# Altium footprint library adafruit.PCBLIB: 643 footprints (part 39 of 41)
Each footprint in its own frame and in the unit in brackets; x right, y up, seen from the top. Pads: shape width x height; smd on the part's side, far side on the other; paste and mask are expansions set on the pad; w line width, h text height; cw(c..) or ccw(c..) is an arc to the next point about the centre after c.
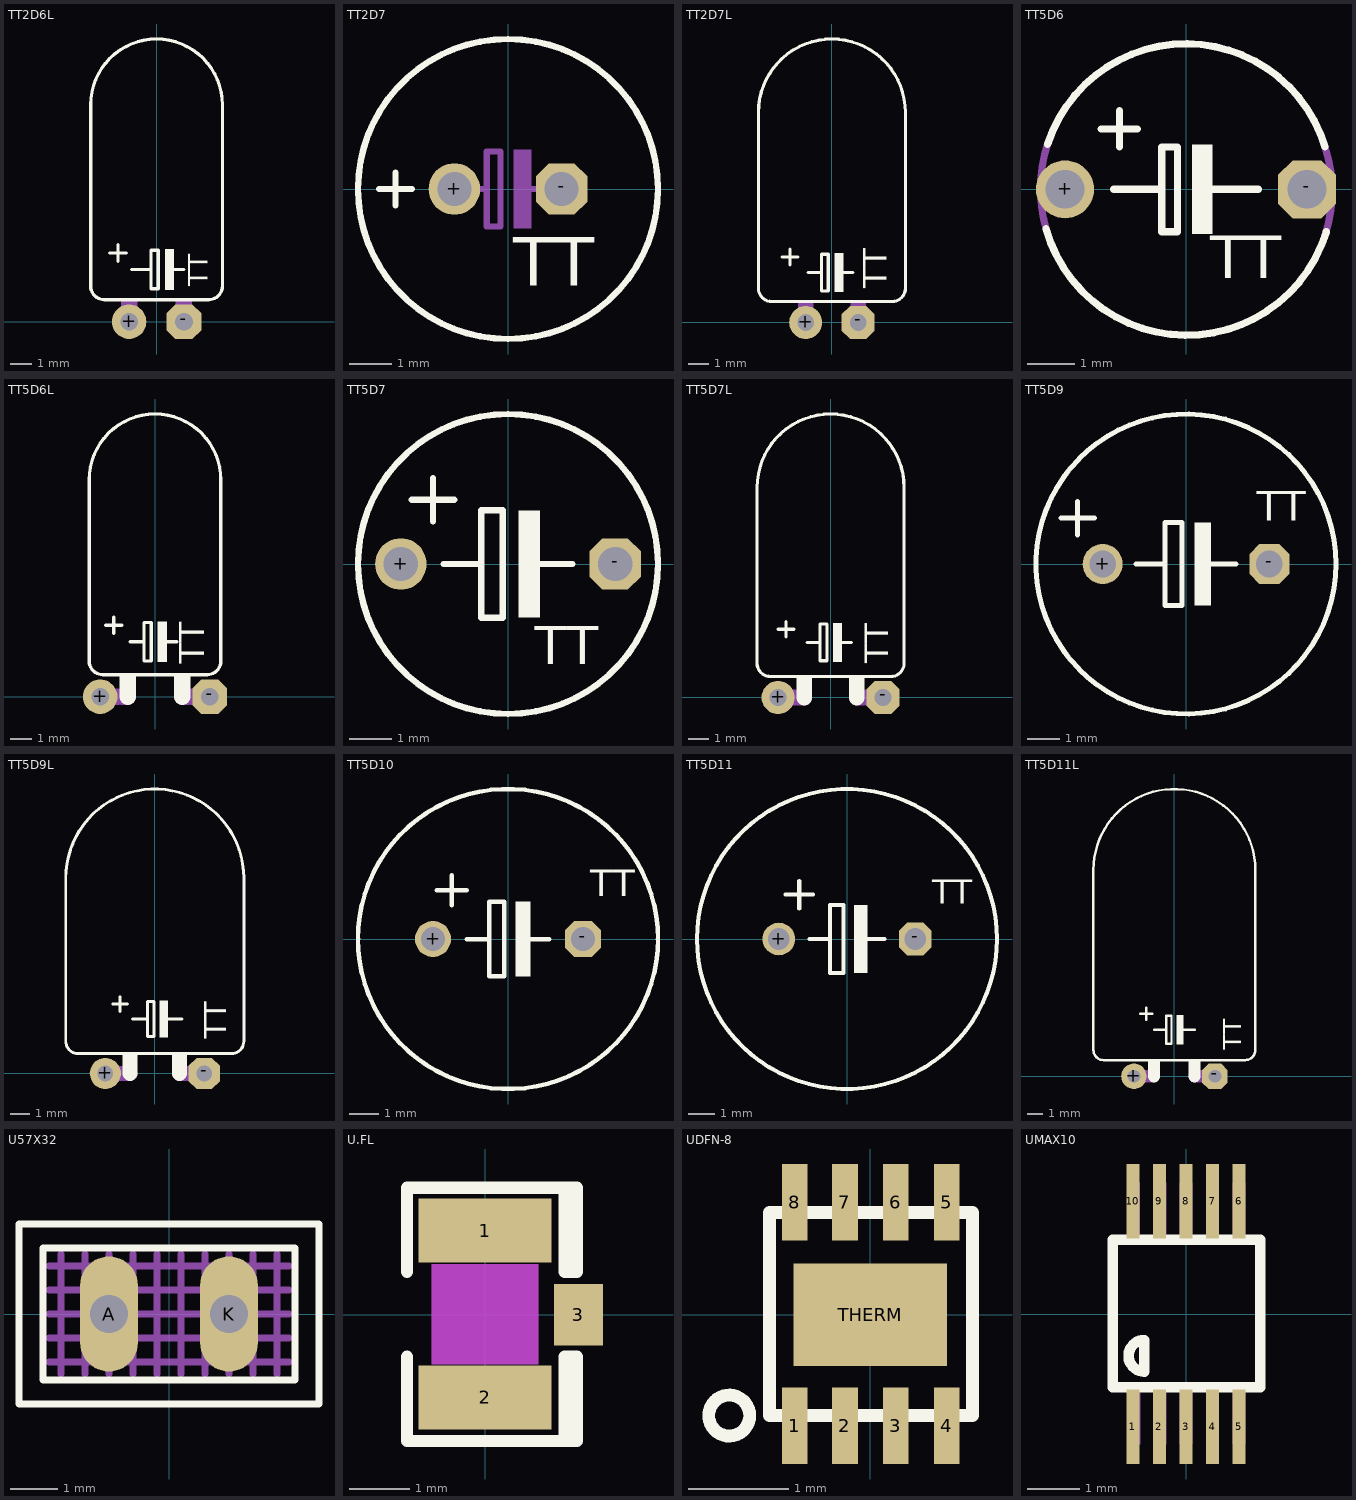
[diagram p38: the footprints below, top view; thin cyan lines are the x and y axes]

## TT2D6L [mil]
pads (2):
  round 63 hole 32: +(-50,0)
  oct 63x63 hole 32: -(50,0)
Top Overlay:
  rectangle: 15,58 32,132
  lines w6: -85,125 -55,125 ; -70,110 -70,140 ; -45,95 -10,95 ; 30,95 50,95 ; -10,95 -10,60 3,60 3,130 -10,130 -10,95 ; -120,65 -120,395 cw(c0,395) 120,395 120,65 cw(c95,65) 95,40 -95,40 cw(c-95,65) -120,65
  text "TT" at 105,65 h60.45
Courtyard Bottom:
  rectangle: -65,25 -35,40
  rectangle: 35,25 65,40
  rectangle: 35,-5 65,25
  rectangle: -65,-5 -35,25

## TT2D7 [mil]
pads (2):
  round 48 hole 32: +(-50,0)
  oct 48x48 hole 32: -(50,0)
Top Overlay:
  circle w6: c0,0 r140
  lines w6: -120,0 -90,0 ; -105,-15 -105,15
  text "TT" at 5,-105 h77.5
Courtyard Bottom:
  rectangle: 5,-37 22,37
  lines w6: -40,0 -20,0 ; 20,0 40,0 ; -20,0 -20,-35 -7,-35 -7,35 -20,35 -20,0

## TT2D7L [mil]
pads (2):
  round 63 hole 32: +(-50,0)
  oct 63x63 hole 32: -(50,0)
Top Overlay:
  rectangle: 5,58 22,132
  lines w6: -95,125 -65,125 ; -80,110 -80,140 ; -45,95 -20,95 ; 20,95 40,95 ; -20,95 -20,60 -7,60 -7,130 -20,130 -20,95 ; -140,65 ccw(c-115,65) -115,40 115,40 ccw(c115,65) 140,65 140,400 ccw(c0,400) -140,400 -140,65
  text "TT" at 120,65 h77.5
Courtyard Bottom:
  rectangle: -65,25 -35,40
  rectangle: 35,25 65,40
  rectangle: 35,-5 65,25
  rectangle: -65,-5 -35,25

## TT5D6 [mil]
pads (2):
  round 48 hole 32: +(-100,0)
  oct 48x48 hole 32: -(100,0)
Top Overlay:
  rectangle: 5,-37 22,37
  lines w6: -115.76,-32.41 ccw(c0.5,0.15) 116,-35 ; -114.49,37 cw(c-0.06,0.18) 115,35 ; -70,50 -40,50 ; -60,0 -20,0 ; -55,35 -55,65 ; 20,0 60,0 ; -20,0 -20,-35 -7,-35 -7,35 -20,35 -20,0
  text "TT" at 20,-85 h60.45
Courtyard Bottom:
  lines w6: -115,-35 cw(c1.55,0.49) -114.04,39 ; 115,-38.01 ccw(c0.48,-1.51) 115,35

## TT5D6L [mil]
pads (2):
  round 63 hole 32: +(-100,0)
  oct 63x63 hole 32: -(100,0)
Top Overlay:
  rectangle: -65,25 -35,40
  rectangle: 35,25 65,40
  rectangle: 5,63 22,137
  lines w6: -90,130 -60,130 ; -75,115 -75,145 ; -45,100 -20,100 ; 20,100 40,100 ; -20,100 -20,65 -7,65 -7,135 -20,135 -20,100 ; -120,65 -120,395 cw(c0,395) 120,395 120,65 cw(c95,65) 95,40 -95,40 cw(c-95,65) -120,65
  lines w30: -50,0 -50,25 ; 50,0 50,25
  text "TT" at 105,60 h77.5
Courtyard Bottom:
  rectangle: 65,-15 100,15
  rectangle: -100,-15 -65,15
  lines w30: -60,0 -50,0 ; 50,0 60,0

## TT5D7 [mil]
pads (2):
  round 48 hole 32: +(-100,0)
  oct 48x48 hole 32: -(100,0)
Top Overlay:
  circle w6: c0,0 r140
  rectangle: 10,-50 30,50
  lines w6: -90,60 -50,60 ; -70,40 -70,80 ; -60,0 -25,0 ; 25,0 60,0 ; -25,0 -25,-50 -5,-50 -5,50 -25,50 -25,0
  text "TT" at 25,-105 h60.45

## TT5D7L [mil]
pads (2):
  round 63 hole 32: +(-100,0)
  oct 63x63 hole 32: -(100,0)
Top Overlay:
  rectangle: -65,25 -35,40
  rectangle: 35,25 65,40
  rectangle: 5,68 22,142
  lines w6: -100,130 -70,130 ; -85,115 -85,145 ; -45,105 -20,105 ; 20,105 40,105 ; -20,105 -20,70 -7,70 -7,140 -20,140 -20,105 ; -140,65 -140,400 cw(c0,400) 140,400 140,65 cw(c115,65) 115,40 -115,40 cw(c-115,65) -140,65
  lines w30: -50,0 -50,25 ; 50,0 50,25
  text "TT" at 125,65 h77.5
Courtyard Bottom:
  rectangle: 65,-15 100,15
  rectangle: -100,-15 -65,15
  lines w30: -60,0 -50,0 ; 50,0 60,0

## TT5D9 [mil]
pads (2):
  round 48 hole 32: +(-100,0)
  oct 48x48 hole 32: -(100,0)
Top Overlay:
  circle w6: c0,0 r180
  rectangle: 10,-50 30,50
  lines w6: -150,55 -110,55 ; -130,35 -130,75 ; -60,0 -25,0 ; 25,0 60,0 ; -25,0 -25,-50 -5,-50 -5,50 -25,50 -25,0
  text "TT" at 85,40 h60.45

## TT5D9L [mil]
pads (2):
  round 63 hole 32: +(-100,0)
  oct 63x63 hole 32: -(100,0)
Top Overlay:
  rectangle: -65,25 -35,40
  rectangle: 35,25 65,40
  rectangle: 10,73 27,147
  lines w6: -85,140 -55,140 ; -70,125 -70,155 ; -45,110 -15,110 ; 25,110 55,110 ; -15,110 -15,75 -2,75 -2,145 -15,145 -15,110 ; -180,65 -180,395 cw(c0,395) 180,395 180,65 cw(c155,65) 155,40 -155,40 cw(c-155,65) -180,65
  lines w30: -50,0 -50,25 ; 50,0 50,25
  text "TT" at 160,70 h77.5
Courtyard Bottom:
  rectangle: 65,-15 100,15
  rectangle: -100,-15 -65,15
  lines w30: -60,0 -50,0 ; 50,0 60,0

## TT5D10 [mil]
pads (2):
  round 48 hole 32: +(-100,0)
  oct 48x48 hole 32: -(100,0)
Top Overlay:
  circle w6: c0,0 r200
  rectangle: 10,-50 30,50
  lines w6: -95,65 -55,65 ; -75,45 -75,85 ; -55,0 -25,0 ; 25,0 55,0 ; -25,0 -25,-50 -5,-50 -5,50 -25,50 -25,0
  text "TT" at 110,45 h60.45

## TT5D11 [mil]
pads (2):
  round 48 hole 32: +(-100,0)
  oct 48x48 hole 32: -(100,0)
Top Overlay:
  circle w6: c0,0 r220
  rectangle: 10,-50 30,50
  lines w6: -90,65 -50,65 ; -70,45 -70,85 ; -55,0 -25,0 ; 25,0 55,0 ; -25,0 -25,-50 -5,-50 -5,50 -25,50 -25,0
  text "TT" at 125,40 h60.45

## TT5D11L [mil]
pads (2):
  round 63 hole 32: +(-100,0)
  oct 63x63 hole 32: -(100,0)
Top Overlay:
  rectangle: -65,25 -35,40
  rectangle: 35,25 65,40
  rectangle: 5,78 22,152
  lines w6: -85,155 -55,155 ; -70,140 -70,170 ; -50,115 -20,115 ; 20,115 50,115 ; -20,115 -20,80 -7,80 -7,150 -20,150 -20,115 ; -200,65 -200,510 cw(c0,510) 200,510 200,65 cw(c175,65) 175,40 -175,40 cw(c-175,65) -200,65
  lines w30: -50,0 -50,25 ; 50,0 50,25
  text "TT" at 180,65 h77.5
Courtyard Bottom:
  rectangle: 65,-15 100,15
  rectangle: -100,-15 -65,15
  lines w30: -60,0 -50,0 ; 50,0 60,0

## U57X32 [mil]
pads (2):
  oval 48x96 hole 32: A(-50,0) K(50,0)
Top Overlay:
  lines w6: -125,-75 125,-75 125,75 -125,75 -125,-75 ; -105,-55 105,-55 105,55 -105,55 -105,-55
Courtyard Bottom:
  lines w6: -100,-40 100,-40 ; -100,-20 100,-20 ; -100,0 100,0 ; -100,20 100,20 ; -100,40 100,40 ; -90,-50 -90,50 ; -70,-50 -70,50 ; -50,-50 -50,50 ; -30,-50 -30,50 ; -10,-50 -10,50 ; 10,-50 10,50 ; 30,-50 30,50 ; 50,-50 50,50 ; 70,-50 70,50 ; 90,-50 90,50

## U.FL [mil]
pads (3):
  rect 87x42 smd: 1(0,55) 2(0,-54.13)
  rect 32x40 smd: 3(61,0)
Top Overlay:
  lines w8: -51.18,-27.56 -51.18,-82.68 52,-82.68 ; -51.18,28 -51.18,83 52,83 ; 56,-78.74 56,-27.56 ; 56,28 56,79 ; 52,-82.68 52,-27.56 60,-27.56 60,-82.68 52,-82.68 ; 52,83 52,28 60,28 60,83 52,83
Assembly Top keep-out:
  rectangle: -35,-32.5 35,33

## UDFN-8 [mil]
pads (9):
  rect 10x30 smd: 1(-29.53,-43.31) 2(-9.84,-43.31) 3(10,-43.31) 4(30,-43.31) 5(30,44) 6(10,44) 7(-9.84,44) 8(-29.53,44)
  rect 60x40 smd: THERM(0,0)
Top Overlay:
  circle w5: c-55.12,-39.37 r8
  lines w5: -39.37,-39.37 40,-39.37 40,40 -39.37,40 -39.37,-39.37
Top Paste:
  region: 0,0 10,0 10,10 0,10
  region: 0,0 10,0 10,10 0,10
  region: 0,0 10,0 10,10 0,10
  region: 0,0 10,0 10,10 0,10
Top Solder:
  region: 0,0 10,0 10,10 0,10

## UMAX10 [mil]
pads (10):
  rect 10x56 smd: 1(-40,-85) 2(-20,-85) 3(0,-85) 4(20,-85) 5(40,-85) 6(40,85) 7(20,85) 8(0,85) 9(-20,85) 10(-40,85)
Top Overlay:
  lines w8: -55.12,-55.12 56,-55.12 56,56 -55.12,56 -55.12,-55.12 ; -31.5,-43.31 cw(c-31.5,-31.5) -31.5,-19.68 -31.5,-43.31
Courtyard Bottom:
  rectangle: -44.27,-98.43 -34.43,-59.06
  rectangle: -24.58,-98.43 -14.74,-59.06
  rectangle: -4.9,-98.43 5,-59.06
  rectangle: 15,-98.43 25,-59.06
  rectangle: 35,-98.43 45,-59.06
  region: 45,99 35,99 35,60 45,60
  region: 25,99 15,99 15,60 25,60
  region: 5,99 -4.94,99 -4.94,60 5,60
  region: -14.79,99 -24.63,99 -24.63,60 -14.79,60
  region: -34.47,99 -44.31,99 -44.31,60 -34.47,60